# EAGLE library part KX-KX126 (library FaBo-Mems)
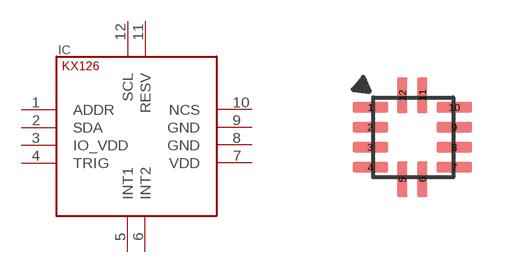
[diagram p38: symbol with the pads of KIONIX-KX126; footprint KIONIX-KX126]

Designator prefix IC

## KX-KX126  [KIONIX-KX126]
1  ADDR
2  SDA
3  IO_VDD
4  TRIG
5  INT1
6  INT2
7  VDD
8  GND
9  GND
10  NCS
11  RESV
12  SCL

## Footprint KIONIX-KX126 (pad centres in mm)
smd 0.9 x 0.27: 1 -1.07,0.75; 2 -1.07,0.25; 3 -1.07,-0.25; 4 -1.07,-0.75; 7 1.03,-0.75; 8 1.03,-0.25; 9 1.03,0.25; 10 1.03,0.75
smd 0.27 x 0.9: 5 -0.27,-1.05; 6 0.23,-1.05; 11 0.23,1.05; 12 -0.27,1.05